# EAGLE library part MSTBA8 (library Traficon)
PHOENIX
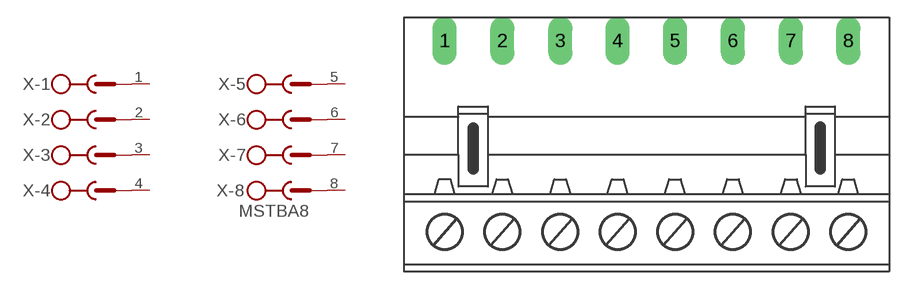
[diagram p240: symbol with the pads of MSTBA8; footprint MSTBA8]

Designator prefix X; gates -1=SK -2=SK -3=SK -4=SK -5=SK -6=SK -7=SK -8=SK+V

## MSTBA8  [MSTBA8]
1  -1:SK  pas
2  -2:SK  pas
3  -3:SK  pas
4  -4:SK  pas
5  -5:SK  pas
6  -6:SK  pas
7  -7:SK  pas
8  -8:SK  pas

## Footprint MSTBA8 (pad centres in mm)
PHOENIX
drill 1.397 long: 1 -17.462,7.62; 2 -12.459,7.62; 3 -7.429,7.62; 4 -2.451,7.62; 5 2.527,7.62; 6 7.556,7.62; 7 12.586,7.62; 8 17.564,7.62